# Altium footprint library CONN_MiniUSB_Vertical.PcbLib: 1 footprints
Each footprint in its own frame and in the unit in brackets; x right, y up, seen from the top. Pads: shape width x height; smd on the part's side, far side on the other; paste and mask are expansions set on the pad; w line width, h text height; cw(c..) or ccw(c..) is an arc to the next point about the centre after c.
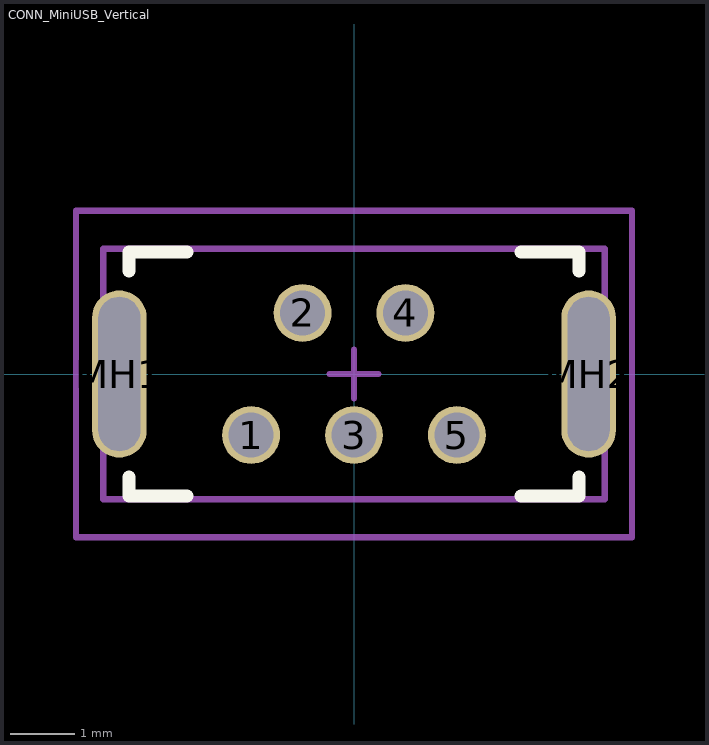
[diagram p0: the footprint, top view; thin cyan lines are the x and y axes]

## CONN_MiniUSB_Vertical [mm] "connector, Mini USB, vertical, 9mm"
height 9
pads (7):
  round 0.9 hole 0.7: 1(-1.6,-0.95) 2(-0.8,0.95) 3(0,-0.95) 4(0.8,0.95) 5(1.6,-0.95)
  oval 0.85x2.6 hole 0.65 slot 2.4 at 90 deg: MH1(-3.65,0) MH2(3.65,0)
Top Overlay:
  lines w0.2: -3.5,-1.6 -3.5,-1.9 -2.6,-1.9 ; -3.5,1.6 -3.5,1.9 -2.6,1.9 ; 2.6,-1.9 3.5,-1.9 3.5,-1.6 ; 2.6,1.9 3.5,1.9 3.5,1.6
Mechanical 13:
  lines w0.1: -3.9,-1.95 -3.9,1.95 3.9,1.95 3.9,-1.95 -3.9,-1.95
Mechanical 15:
  lines w0.1: -0.381,0 0.381,0 ; 0,-0.381 0,0 0,0.381 ; -4.325,-2.54 4.325,-2.54 4.325,2.54 -4.325,2.54 -4.325,-2.54
3D body "MinUSB.stp": height 10, standoff -4, extent -3.9,-1.95 3.9,1.95